# Altium footprint library Klok.PcbLib: 23 footprints (part 1 of 2)
Each footprint in its own frame and in the unit in brackets; x right, y up, seen from the top. Pads: shape width x height; smd on the part's side, far side on the other; paste and mask are expansions set on the pad; w line width, h text height; cw(c..) or ccw(c..) is an arc to the next point about the centre after c.
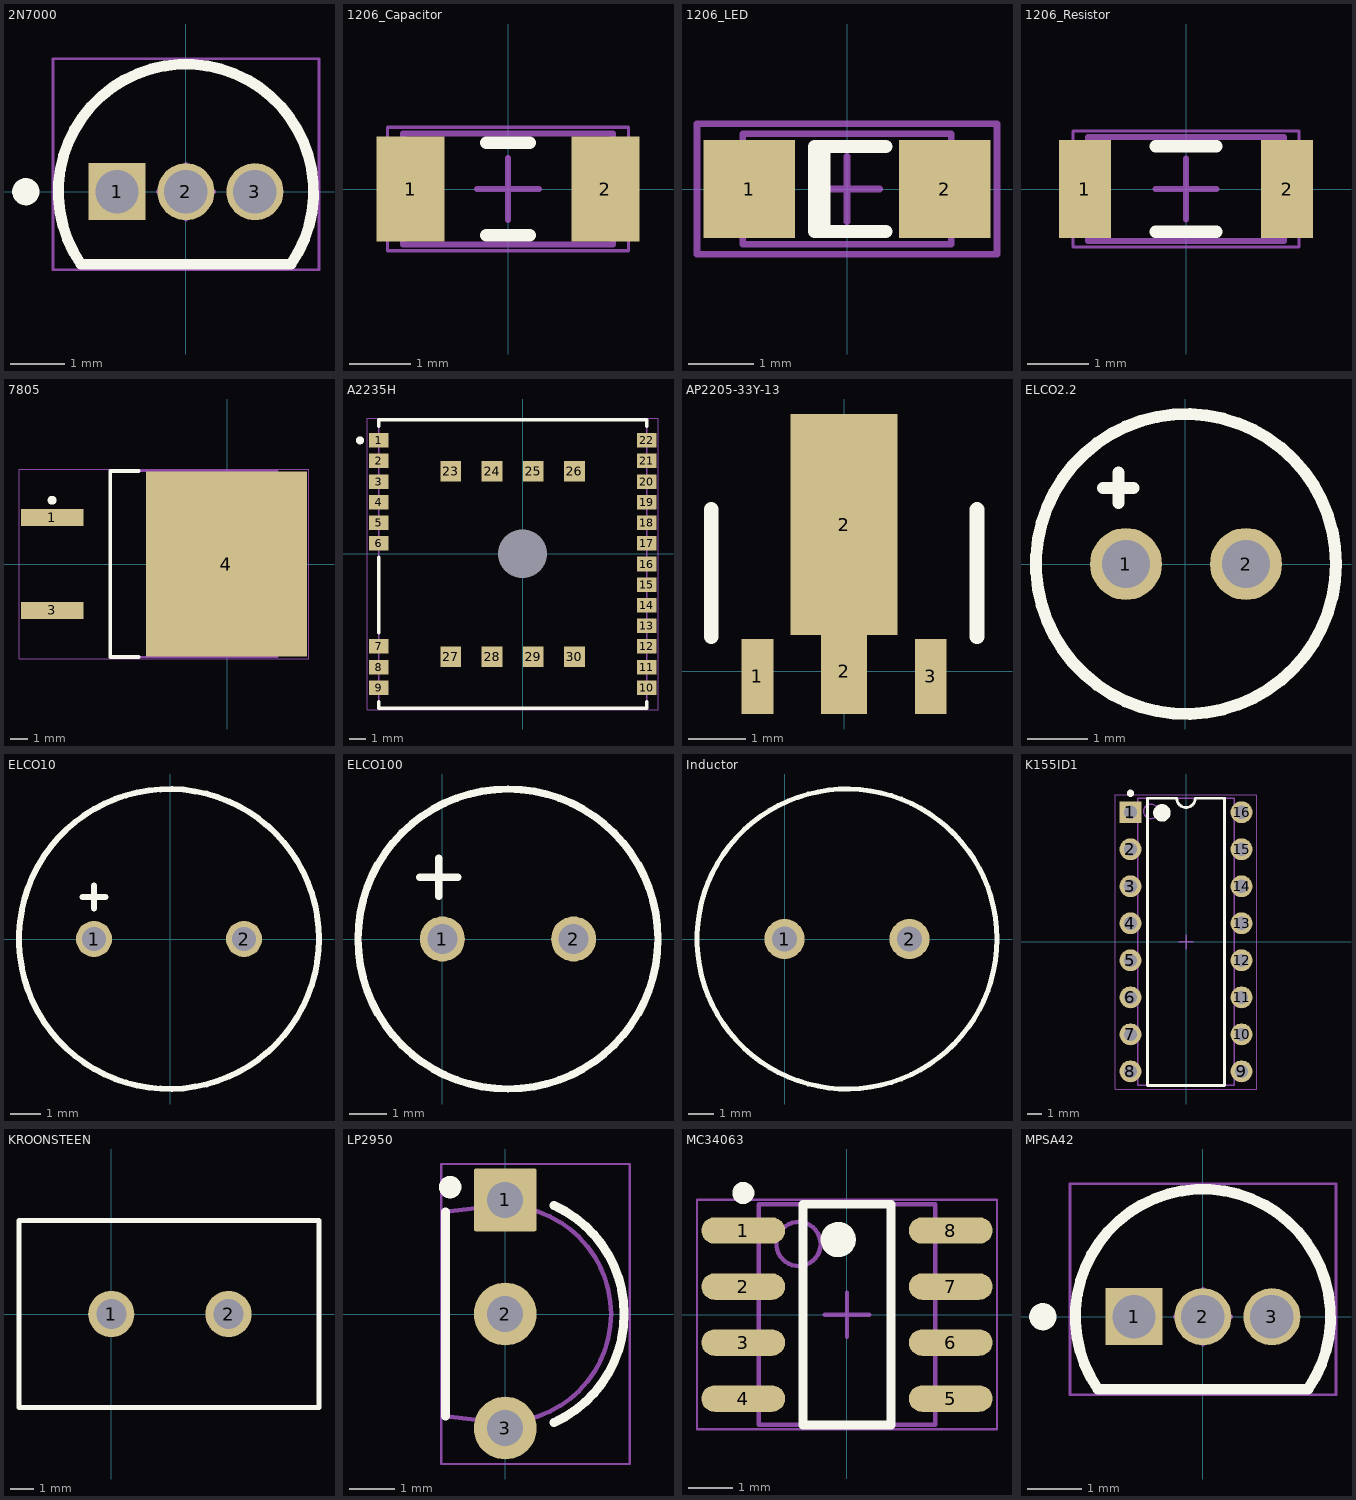
[diagram p0: the footprints below, top view; thin cyan lines are the x and y axes]

## 2N7000 [mm]
pads (3):
  rect 1.05x1.05 hole 0.8: 1(-1.27,0)
  round 1.05 hole 0.8: 2(0,0) 3(1.27,0)
Top Overlay:
  circle w0.25: c-2.95,0 r0.125
  lines w0.2: -1.934,-1.335 cw(c0,0) 1.934,-1.335 -1.934,-1.335
Mechanical 13:
  lines w0.1: -1.934,-1.335 cw(c0,0) 1.934,-1.335 -1.934,-1.335
Mechanical 15:
  lines w0.05: -2.45,-1.435 -2.45,2.45 2.45,2.45 2.45,-1.435 -2.45,-1.435
  lines w0.1: -0.5,0 0.5,0 ; 0,-0.5 0,0.5
3D body: height 7.87, standoff 2.54, extent -2.349,-1.334 2.357,2.359

## 1206_Capacitor [mm]
pads (2):
  rect 1.1x1.7 smd: 1(-1.578,0) 2(1.578,0)
Top Overlay:
  lines w0.2: -0.35,-0.75 0.35,-0.75 ; -0.35,0.75 0.35,0.75
Mechanical 13:
  lines w0.1: -1.7,-0.9 1.7,-0.9 1.7,0.9 -1.7,0.9 -1.7,-0.9
Mechanical 15:
  lines w0.05: -1.95,-1 1.95,-1 1.95,1 -1.95,1 -1.95,-1
  lines w0.1: -0.5,0 0.5,0 ; 0,-0.5 0,0.5
3D body: height 1.52, standoff 0, extent 1.2,-0.9 1.7,0.9
3D body: height 1.52, standoff 0, extent -1.7,-0.9 -1.2,0.9
3D body: height 1.52, standoff 0, extent -1.2,-0.9 1.2,0.9

## 1206_LED [mm]
pads (2):
  rect 1.4x1.5 smd: 1(-1.5,0) 2(1.5,0)
Top Overlay:
  rectangle: -0.458,-0.665 -0.254,0.635
  lines w0.2: 0.6,-0.65 -0.5,-0.65 -0.5,0.65 0.6,0.65
Mechanical 1:
  text "K" at 1.422,0.152 h0.25
Mechanical 13:
  lines w0.1: -1.6,-0.85 -1.6,0.85 1.6,0.85 1.6,-0.85 -1.6,-0.85
Mechanical 15:
  lines w0.1: -0.5,0 0.5,0 ; 0,-0.5 0,0.5 ; -2.3,-1 -2.3,1 2.3,1 2.3,-1 -2.3,-1
3D body "WL-SMCW_1206_LED.stp": height 0.68, standoff 0, extent -1.6,-0.8 1.6,0.8

## 1206_Resistor [mm]
pads (2):
  rect 0.85x1.6 smd: 1(-1.651,0) 2(1.651,0)
Top Overlay:
  lines w0.2: -0.5,-0.7 0.5,-0.7 ; -0.5,0.7 0.5,0.7
Mechanical 13:
  lines w0.1: -1.6,-0.85 -1.6,0.85 1.6,0.85 1.6,-0.85 -1.6,-0.85
Mechanical 15:
  lines w0.05: -1.85,-0.95 -1.85,0.95 1.85,0.95 1.85,-0.95 -1.85,-0.95
  lines w0.1: -0.5,0 0.5,0 ; 0,-0.5 0,0.5
3D body: height 0.65, standoff 0, extent -1.2,-0.85 1.2,0.85
3D body: height 0.65, standoff 0, extent -1.6,-0.85 -1.2,0.85
3D body: height 0.65, standoff 0, extent 1.2,-0.85 1.6,0.85

## 7805 [mm]
pads (3):
  rect 3.5x0.95 smd: 1(-9.804,2.591) 3(-9.804,-2.591)
  rect 9x10.35 smd: 4(-0.056,0)
Top Overlay:
  circle w0.25: c-9.806,3.565 r0.125
  lines w0.2: -4.956,-5.2 -6.556,-5.2 -6.556,5.2 -4.956,5.2
Mechanical 13:
  lines w0.1: -6.556,-5.2 -6.556,5.2 2.794,5.2 2.794,-5.2 -6.556,-5.2
Mechanical 15:
  lines w0.05: -11.656,-5.3 -11.656,5.3 4.544,5.3 4.544,-5.3 -11.656,-5.3
  lines w0.1: -4.056,0 -3.056,0 ; -3.556,-0.5 -3.556,0.5
3D body: height 4.6, standoff 0, extent -6.556,-5.2 2.794,5.2

## A2235H [mm]
pads (31):
  rect 1.2x0.9 smd: 1(-8.89,6.985) 2(-8.89,5.715) 3(-8.89,4.445) 4(-8.89,3.175) 5(-8.89,1.905) 6(-8.89,0.635) 7(-8.89,-5.715) 8(-8.89,-6.985) 9(-8.89,-8.255) 10(7.62,-8.255) 11(7.62,-6.985) 12(7.62,-5.715) 13(7.62,-4.445) 14(7.62,-3.175) 15(7.62,-1.905) 16(7.62,-0.635) 17(7.62,0.635) 18(7.62,1.905) 19(7.62,3.175) 20(7.62,4.445) 21(7.62,5.715) 22(7.62,6.985)
  rect 1.27x1.27 smd: 23(-4.445,5.08) 24(-1.905,5.08) 25(0.635,5.08) 26(3.175,5.08) 27(-4.445,-6.35) 28(-1.905,-6.35) 29(0.635,-6.35) 30(3.175,-6.35)
  round 2.7 hole 3 unplated: ""(-0.03,-0.005)
Top Overlay:
  lines w0.2: -8.89,-9.105 -8.89,-9.525 7.62,-9.525 7.62,-9.105 ; -8.89,-4.865 -8.89,-0.215 ; -8.89,7.835 -8.89,8.255 7.62,8.255 7.62,7.835
  lines w0.25: -10.04,6.86 cw(c-10.04,6.985) -9.984,6.873
Mechanical 13:
  lines w0.1: -8.89,-9.525 7.62,-9.525 7.62,8.255 -8.89,8.255 -8.89,-9.525
Mechanical 15:
  lines w0.05: -9.59,-9.625 8.32,-9.625 8.32,8.355 -9.59,8.355 -9.59,-9.625
  lines w0.1: -1.135,-0.635 -0.135,-0.635 ; -0.635,-1.135 -0.635,-0.135
3D body: height 7.11, standoff 0, extent -8.889,-9.524 7.619,8.254

## AP2205-33Y-13 [mm]
pads (4):
  rect 0.55x1.3 smd: 1(-1.5,-0.088) 3(1.5,-0.088)
  rect 0.8x1.475 smd: 2(0,0)
  rect 1.85x3.825 smd: 2(0,2.54)
Top Overlay:
  lines w0.254: -2.3,0.6 -2.3,2.8 ; 2.3,0.6 2.3,2.8
Mechanical 1:
  region: 2.4,2.7

## ELCO2.2 [mm]
pads (2):
  round 1.2 hole 0.8: 1(-0.984,0) 2(1.016,0)
Top Overlay:
  circle w0.2: c0.016,0 r2.5
  lines w0.2: -1.365,1.27 -0.857,1.27 ; -1.111,1.016 -1.111,1.524

## ELCO10 [mm]
pads (2):
  round 1.2 hole 0.8: 1(-2.54,0) 2(2.46,0)
Top Overlay:
  circle w0.2: c-0.04,0 r5
  lines w0.2: -2.921,1.397 -2.159,1.397 ; -2.54,1.016 -2.54,1.778

## ELCO100 [mm]
pads (2):
  round 1.2 hole 0.8: 1(0,0) 2(3.5,0)
Top Overlay:
  circle w0.2: c1.75,0 r4
  lines w0.2: -0.6,1.651 0.416,1.651 ; -0.092,1.143 -0.092,2.159

## Inductor [mm]
pads (2):
  round 1.6 / inner round 1.2 / far side round 1.3 hole 1: 1(0,0) 2(5,0)
Top Overlay:
  circle w0.2: c2.499,0 r6

## K155ID1 [mm]
pads (16):
  rect 1.5x1.5 hole 0.9: 1(-3.81,8.89)
  round 1.5 hole 0.9: 2(-3.81,6.35) 3(-3.81,3.81) 4(-3.81,1.27) 5(-3.81,-1.27) 6(-3.81,-3.81) 7(-3.81,-6.35) 8(-3.81,-8.89) 9(3.81,-8.89) 10(3.81,-6.35) 11(3.81,-3.81) 12(3.81,-1.27) 13(3.81,1.27) 14(3.81,3.81) 15(3.81,6.35) 16(3.81,8.89)
Top Overlay:
  circle w0.25: c-3.81,10.19 r0.125
  circle w0.6: c-1.65,8.85 r0.3
  lines w0.2: -2.65,-9.85 -2.65,9.85 -0.635,9.85 ccw(c0,9.85) 0.635,9.85 2.65,9.85 2.65,-9.85 -2.65,-9.85
Mechanical 1:
  text ".Designator" at -2.921,-0.508 h1.2
Mechanical 13:
  circle w0.1: c-2.4,8.95 r0.5
  lines w0.1: -3.3,-9.85 -3.3,9.85 3.3,9.85 3.3,-9.85 -3.3,-9.85
Mechanical 15:
  lines w0.05: -4.85,-10.1 -4.85,10.1 4.85,10.1 4.85,-10.1 -4.85,-10.1
  lines w0.1: -0.5,0 0.5,0 ; 0,-0.5 0,0.5
3D body: height 2.66, standoff 0, extent -3.945,8.39 -3.675,9.39
3D body: height 2.93, standoff 2.66, extent -3.945,8.39 -3.3,9.39
3D body: height 0, standoff -1.6, extent -3.945,8.53 -3.675,9.25
3D body: height 2.66, standoff 0, extent -3.945,5.85 -3.675,6.85
3D body: height 2.93, standoff 2.66, extent -3.945,5.85 -3.3,6.85
3D body: height 0, standoff -1.6, extent -3.945,5.99 -3.675,6.71
3D body: height 2.66, standoff 0, extent -3.945,3.31 -3.675,4.31
3D body: height 2.93, standoff 2.66, extent -3.945,3.31 -3.3,4.31
3D body: height 0, standoff -1.6, extent -3.945,3.45 -3.675,4.17
3D body: height 2.66, standoff 0, extent -3.945,0.77 -3.675,1.77
3D body: height 2.93, standoff 2.66, extent -3.945,0.77 -3.3,1.77
3D body: height 0, standoff -1.6, extent -3.945,0.91 -3.675,1.63
3D body: height 2.66, standoff 0, extent -3.945,-1.77 -3.675,-0.77
3D body: height 2.93, standoff 2.66, extent -3.945,-1.77 -3.3,-0.77
3D body: height 0, standoff -1.6, extent -3.945,-1.63 -3.675,-0.91
3D body: height 2.66, standoff 0, extent -3.945,-4.31 -3.675,-3.31
3D body: height 2.93, standoff 2.66, extent -3.945,-4.31 -3.3,-3.31
3D body: height 0, standoff -1.6, extent -3.945,-4.17 -3.675,-3.45
3D body: height 2.66, standoff 0, extent -3.945,-6.85 -3.675,-5.85
3D body: height 2.93, standoff 2.66, extent -3.945,-6.85 -3.3,-5.85
3D body: height 0, standoff -1.6, extent -3.945,-6.71 -3.675,-5.99
3D body: height 2.66, standoff 0, extent -3.945,-9.39 -3.675,-8.39
3D body: height 2.93, standoff 2.66, extent -3.945,-9.39 -3.3,-8.39
3D body: height 0, standoff -1.6, extent -3.945,-9.25 -3.675,-8.53
3D body: height 2.66, standoff 0, extent 3.675,-9.39 3.945,-8.39
3D body: height 2.93, standoff 2.66, extent 3.3,-9.39 3.945,-8.39
3D body: height 0, standoff -1.6, extent 3.675,-9.25 3.945,-8.53
3D body: height 2.66, standoff 0, extent 3.675,-6.85 3.945,-5.85
3D body: height 2.93, standoff 2.66, extent 3.3,-6.85 3.945,-5.85
3D body: height 0, standoff -1.6, extent 3.675,-6.71 3.945,-5.99
3D body: height 2.66, standoff 0, extent 3.675,-4.31 3.945,-3.31
3D body: height 2.93, standoff 2.66, extent 3.3,-4.31 3.945,-3.31
3D body: height 0, standoff -1.6, extent 3.675,-4.17 3.945,-3.45
3D body: height 2.66, standoff 0, extent 3.675,-1.77 3.945,-0.77
3D body: height 2.93, standoff 2.66, extent 3.3,-1.77 3.945,-0.77
3D body: height 0, standoff -1.6, extent 3.675,-1.63 3.945,-0.91
3D body: height 2.66, standoff 0, extent 3.675,0.77 3.945,1.77
3D body: height 2.93, standoff 2.66, extent 3.3,0.77 3.945,1.77
3D body: height 0, standoff -1.6, extent 3.675,0.91 3.945,1.63
3D body: height 2.66, standoff 0, extent 3.675,3.31 3.945,4.31
3D body: height 2.93, standoff 2.66, extent 3.3,3.31 3.945,4.31
3D body: height 0, standoff -1.6, extent 3.675,3.45 3.945,4.17
3D body: height 2.66, standoff 0, extent 3.675,5.85 3.945,6.85
3D body: height 2.93, standoff 2.66, extent 3.3,5.85 3.945,6.85
3D body: height 0, standoff -1.6, extent 3.675,5.99 3.945,6.71
3D body: height 2.66, standoff 0, extent 3.675,8.39 3.945,9.39
3D body: height 2.93, standoff 2.66, extent 3.3,8.39 3.945,9.39
3D body: height 0, standoff -1.6, extent 3.675,8.53 3.945,9.25
3D body: height 5.08, standoff 0.51, extent -3.3,-9.85 3.3,9.85

## KROONSTEEN [mm]
pads (2):
  round 2 / inner round 1.2 / far side round 2 hole 1.3: 1(0,0) 2(5.08,0)
Top Overlay:
  lines w0.2: -4,-4.05 9,-4.05 9,0.325 9,4.05 -4,4.05 -4,-4.05

## LP2950 [mm]
pads (3):
  rrect7% 1.4x1.4 hole 0.8: 1(0,2.54)
  round 1.4 hole 0.8: 2(0,0) 3(0,-2.54)
Top Overlay:
  circle w0.25: c-1.225,2.825 r0.125
  lines w0.2: -1.325,-2.273 -1.325,2.273 ; 1.092,-2.415 ccw(c0,0) 1.092,2.415
Mechanical 1:
  text ".Designator" at -1.009,-0.429 h0.76
Mechanical 13:
  lines w0.1: 0.195,-2.4 0.195,-2.722 0.195,-2.83 -0.185,-2.83 -0.185,-2.722 -0.185,-2.412 ; 0.195,2.4 0.195,2.722 0.195,2.83 -0.185,2.83 -0.185,2.722 -0.185,2.412 ; -0.185,-2.412 -1.325,-2.273 -1.325,2.273 -0.185,2.412 ; -0.185,-2.412 -0.055,-2.412 ccw(c-0.055,0) -0.055,2.412 -0.185,2.412
Mechanical 15:
  lines w0.05: -1.425,-3.34 -1.425,3.34 2.775,3.34 2.775,-3.34 -1.425,-3.34
  lines w0.1: -0.5,0 0.5,0 ; 0,-0.5 0,0.5
3D body "LP0003B.stp": height 9.01, standoff -8.51, extent -1.333,-2.83 2.349,2.83

## MC34063 [mm]
pads (8):
  oval 1.9x0.6 smd: 1(-2.35,1.905) 2(-2.35,0.635) 3(-2.35,-0.635) 4(-2.35,-1.905) 5(2.35,-1.905) 6(2.35,-0.635) 7(2.35,0.635) 8(2.35,1.905)
Top Overlay:
  circle w0.4: c-0.2,1.7 r0.2
  circle w0.25: c-2.35,2.755 r0.125
  lines w0.2: -1,-2.5 1,-2.5 1,2.5 -1,2.5 -1,-2.5
Mechanical 13:
  circle w0.1: c-1.1,1.6 r0.5
  lines w0.1: -2,-2.5 2,-2.5 2,2.5 -2,2.5 -2,-2.5
Mechanical 15:
  lines w0.05: -3.4,-2.6 3.4,-2.6 3.4,2.6 -3.4,2.6 -3.4,-2.6
  lines w0.1: -0.5,0 0.5,0 ; 0,-0.5 0,0.5
3D body: height 1.75, standoff 0.1, extent -2,-2.5 2,2.5

## MPSA42 [mm]
pads (3):
  rect 1.05x1.05 hole 0.8: 1(-1.27,0)
  round 1.05 hole 0.8: 2(0,0) 3(1.27,0)
Top Overlay:
  circle w0.25: c-2.95,0 r0.125
  lines w0.2: -1.934,-1.335 cw(c0,0) 1.934,-1.335 -1.934,-1.335
Mechanical 13:
  lines w0.1: -1.934,-1.335 cw(c0,0) 1.934,-1.335 -1.934,-1.335
Mechanical 15:
  lines w0.05: -2.45,-1.435 2.45,-1.435 2.45,2.45 -2.45,2.45 -2.45,-1.435
  lines w0.1: -0.5,0 0.5,0 ; 0,-0.5 0,0.5
3D body: height 7.87, standoff 2.54, extent -2.349,-1.334 2.357,2.359